# Altium schematic symbol library SPV1050.SchLib: 1 symbol
Pins are listed as number, name and electrical type; pins without a type are passive.

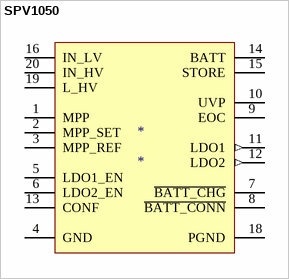
[diagram p0: symbol SPV1050]

## SPV1050
designator *
pins: 1 MPP, 2 MPP_SET, 3 MPP_REF, 4 GND, 5 LDO1_EN, 6 LDO2_EN, 7 ~{BATT_CHG}, 8 ~{BATT_CONN}, 9 EOC, 10 UVP, 11 LDO1 (out), 12 LDO2 (out), 13 CONF, 14 BATT, 15 STORE, 16 IN_LV, 18 PGND, 19 L_HV, 20 IN_HV